# EAGLE library part CP2102 (library infinity_mirror_revd)
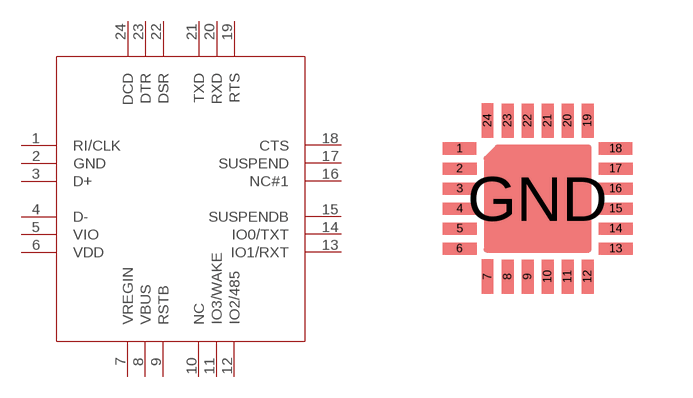
[diagram p1: symbol with the pads of CP2102_QFN24; footprint CP2102_QFN24]

Designator prefix -

## CP2102  [CP2102_QFN24]
1  RI/CLK
2  GND
3  D+
4  D-
5  VIO
6  VDD
7  VREGIN
8  VBUS
9  RSTB
10  NC
11  IO3/WAKE
12  IO2/485
13  IO1/RXT
14  IO0/TXT
15  SUSPENDB
16  NC#1
17  SUSPEND
18  CTS
19  RTS
20  RXD
21  TXD
22  DSR
23  DTR
24  DCD

## Footprint CP2102_QFN24 (pad centres in mm)
QFN24 Package
smd 0.85 x 0.3: 1 -1.95,1.25; 2 -1.95,0.75; 3 -1.95,0.25; 4 -1.95,-0.25; 5 -1.95,-0.75; 6 -1.95,-1.25; 13 1.95,-1.25; 14 1.95,-0.75; 15 1.95,-0.25; 16 1.95,0.25; 17 1.95,0.75; 18 1.95,1.25
smd 0.3 x 0.85: 7 -1.25,-1.95; 8 -0.75,-1.95; 9 -0.25,-1.95; 10 0.25,-1.95; 11 0.75,-1.95; 12 1.25,-1.95; 19 1.25,1.95; 20 0.75,1.95; 21 0.25,1.95; 22 -0.25,1.95; 23 -0.75,1.95; 24 -1.25,1.95
smd 2.54 x 1.905: GND 0,0